# Altium footprint library Generic.PcbLib: 17 footprints (part 2 of 2)
Each footprint in its own frame and in the unit in brackets; x right, y up, seen from the top. Pads: shape width x height; smd on the part's side, far side on the other; paste and mask are expansions set on the pad; w line width, h text height; cw(c..) or ccw(c..) is an arc to the next point about the centre after c.
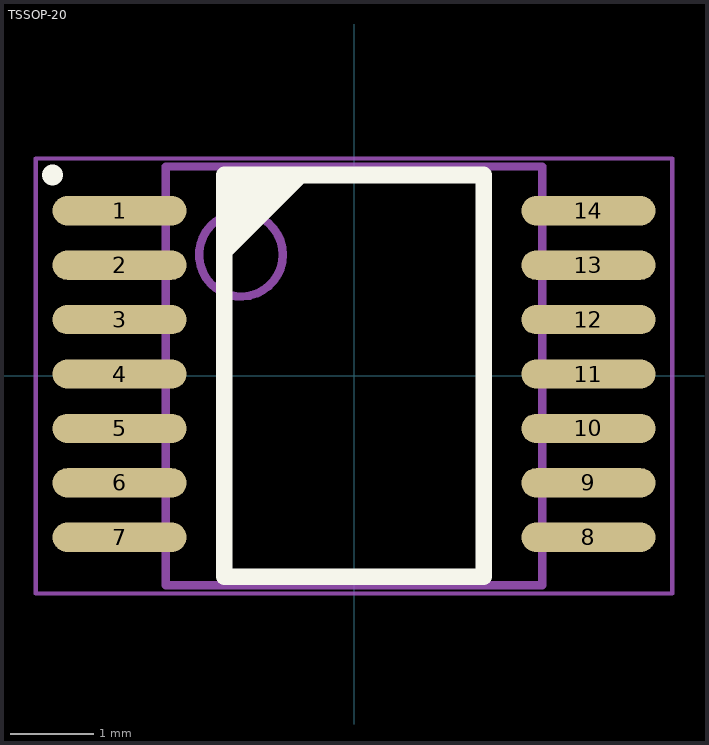
[diagram p1: the footprint, top view; thin cyan lines are the x and y axes]

## TSSOP-20 [mm]
height 1.2
pads (14):
  oval 1.6x0.35 smd: 1(-2.8,1.973) 2(-2.8,1.322) 3(-2.8,0.673) 4(-2.8,0.022) 5(-2.8,-0.627) 6(-2.8,-1.278) 7(-2.8,-1.927) 8(2.8,-1.928) 9(2.8,-1.278) 10(2.8,-0.628) 11(2.8,0.022) 12(2.8,0.673) 13(2.8,1.322) 14(2.8,1.973)
Top Overlay:
  circle w0.25: c-3.6,2.4 r0
  region: -0.575,2.325 -1.55,1.35 -1.55,2.325
  lines w0.2: -1.55,-2.4 1.55,-2.4 1.55,2.4 -1.55,2.4 -1.55,-2.4
Mechanical 13:
  circle w0.1: c-1.35,1.448 r0.5
  lines w0.1: -2.25,-2.5 2.25,-2.5 2.25,2.5 -2.25,2.5 -2.25,-2.5
Mechanical 15:
  lines w0.05: -3.8,-2.6 3.8,-2.6 3.8,2.598 -3.8,2.598 -3.8,-2.6
  text ".Designator" at -3.1,1.3 h1.5
3D body "User Library-IPC SO.step": height 1.35, standoff 0, extent -3.228,-2.55 3.228,2.55